# Altium schematic symbol library Micro Pirani 905.Schlib: 1 symbol
Pins are listed as number, name and electrical type; pins without a type are passive.

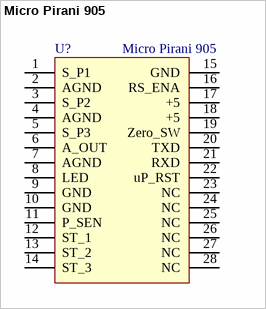
[diagram p0: symbol Micro Pirani 905]

## Micro Pirani 905
designator U?
Назначение: Датчик давления; Наименование: Micro Pirani 905
footprint DIP28(MicroPirani)
pins: 1 S_P1, 2 AGND, 3 S_P2, 4 AGND, 5 S_P3, 6 A_OUT, 7 AGND, 8 LED, 9 GND, 10 GND, 11 P_SEN, 12 ST_1, 13 ST_2, 14 ST_3, 15 GND, 16 RS_ENA, 17 +5, 18 +5, 19 Zero_SW, 20 TXD, 21 RXD, 22 uP_RST, 23 NC, 24 NC, 25 NC, 26 NC, 27 NC, 28 NC